# EAGLE library part CH340 (library LARS_409_MC)
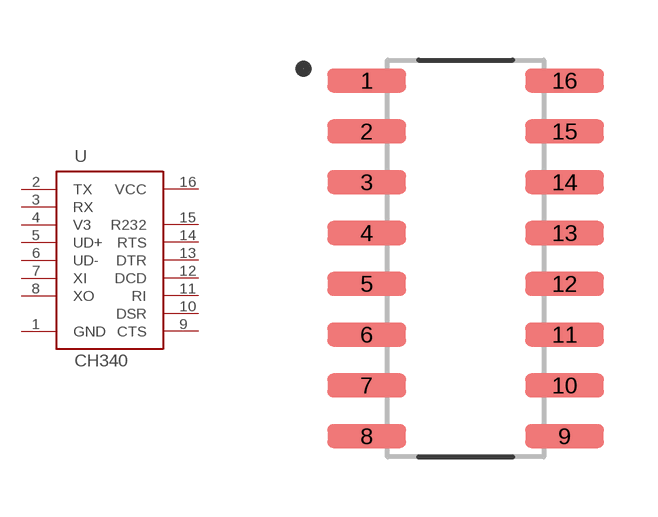
[diagram p17: symbol with the pads of SOIC-16; footprint SOIC-16]

Designator prefix U

## CH340  [SOIC-16]
1  GND  sup
2  TX  out
3  RX  in
4  V3  pwr
5  UD+
6  UD-
7  XI  in
8  XO  out
9  CTS
10  DSR
11  RI
12  DCD
13  DTR
14  RTS
15  R232
16  VCC  sup

## Footprint SOIC-16 (pad centres in mm)
smd 1.97 x 0.6: 1 -2.475,4.445; 2 -2.475,3.175; 3 -2.475,1.905; 4 -2.475,0.635; 5 -2.475,-0.635; 6 -2.475,-1.905; 7 -2.475,-3.175; 8 -2.475,-4.445; 9 2.475,-4.445; 10 2.475,-3.175; 11 2.475,-1.905; 12 2.475,-0.635; 13 2.475,0.635; 14 2.475,1.905; 15 2.475,3.175; 16 2.475,4.445